# Altium footprint library molex-term-blk.PcbLib: 4 footprints
Each footprint in its own frame and in the unit in brackets; x right, y up, seen from the top. Pads: shape width x height; smd on the part's side, far side on the other; paste and mask are expansions set on the pad; w line width, h text height; cw(c..) or ccw(c..) is an arc to the next point about the centre after c.
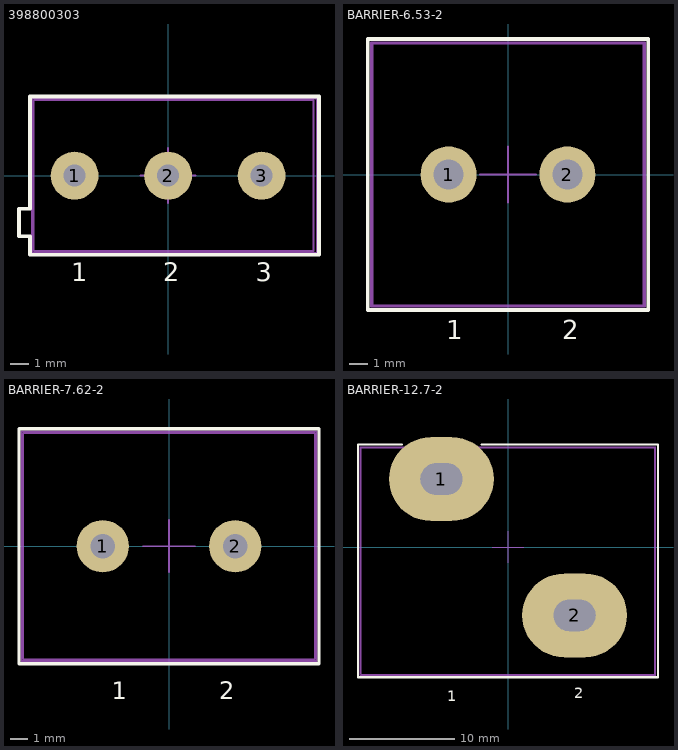
[diagram p0: the footprints below, top view; thin cyan lines are the x and y axes]

## 398800303 [mm] "Terminal Block; 5.08mm Pitch; 3 Positions"
height 10
pads (3):
  round 2.6 hole 1.2: 1(-5.08,0) 2(0,0) 3(5.08,0)
Top Overlay:
  lines w0.2: -8.1,-3.3 -7.5,-3.3 -7.5,-4.3 8.2,-4.3 8.2,4.3 -7.5,4.3 -7.5,-1.8 -8.1,-1.8 -8.1,-3.3
  text "3" at 4.75,-5.75 h1.02
  text "1" at -5.25,-5.75 h1.02
  text "2" at -0.25,-5.75 h1.02
Top Outline:
  lines w0.1: -1.5,0 1.5,0 ; 0,-1.5 0,1.5 ; -7.3,-4.1 -7.3,4.1 7.9,4.1 7.9,-4.1 -7.3,-4.1
Top Assembly:
  lines w0.1: -7.4,-4.2 -7.4,4.2 8.1,4.2 8.1,-4.2 -7.4,-4.2
  text ".Designator" at -3,-2.4 h0.5
3D body "398800303.stp": height 10.1, standoff -3.17, extent -7.85,-4.075 8,4.053

## BARRIER-6.53-2 [mm] "Barrier Terminal Block; 6.35 Pitch; 2 Positions"
height 15
pads (2):
  round 3 hole 1.6: 1(-3.175,0) 2(3.175,0)
Top Overlay:
  lines w0.2: -7.5,-7.25 -7.5,7.25 7.5,7.25 7.5,-7.25 -7.5,-7.25
  text "2" at 2.9,-8.8 h1.02
  text "1" at -3.3,-8.8 h1.02
Top Outline:
  lines w0.1: -1.5,0 1.5,0 ; 0,-1.5 0,1.5 ; -7.25,-7 7.25,-7 7.25,7 -7.25,7 -7.25,-7
Top Assembly:
  lines w0.1: -7.325,-7.075 7.325,-7.075 7.325,7.075 -7.325,7.075 -7.325,-7.075
  text ".Designator" at -2.45,-4.35 h0.5
3D body: height 7.5, standoff 0, extent -5.65,-6 -0.7,6
3D body: height 7.5, standoff 0, extent 0.7,-6 5.65,6.1
3D body: height 15, standoff 0, extent -0.7,-7 0.7,7
3D body: height 15, standoff 0, extent -7.25,-7 -5.65,7
3D body: height 15, standoff 0, extent 5.65,-7 7.25,7
3D body: height 10, standoff 7.5, extent -5.167,-1.996 -1.183,1.996
3D body: height 10, standoff 7.5, extent 1.183,-1.996 5.167,1.996

## BARRIER-7.62-2 [mm] "Barrier Terminal Block; 7.62mm Pitch; 2 Positions"
height 14.5
pads (2):
  round 3 hole 1.4: 1(-3.81,0) 2(3.81,0)
Top Overlay:
  lines w0.2: -8.625,-6.75 -8.625,6.75 8.625,6.75 8.625,-6.75 -8.625,-6.75
  text "2" at 2.9,-8.8 h1.02
  text "1" at -3.3,-8.8 h1.02
Top Outline:
  lines w0.1: -1.5,0 1.5,0 ; 0,-1.5 0,1.5 ; -8.375,-6.5 8.375,-6.5 8.375,6.5 -8.375,6.5 -8.375,-6.5
Top Assembly:
  lines w0.1: -8.475,-6.6 8.475,-6.6 8.475,6.6 -8.475,6.6 -8.475,-6.6
  text ".Designator" at -2.45,-4.35 h0.5
3D body "st-313.stp": height 14.5, standoff -4, extent -8.37,-6.5 8.37,6.5

## BARRIER-12.7-2 [mm] "Barrier Terminal Block; 12.7mm Pitch; 2 Positions"
height 22.6
pads (2):
  oval 10x8 hole 3 slot 4 at 0 deg: 1(-6.35,6.5) 2(6.35,-6.5)
Top Overlay:
  lines w0.2: -10.1,9.8 -14.3,9.8 -14.3,-12.4 14.3,-12.4 14.3,9.8 -2.5,9.8
  text "1" at -5.8,-14.7 h1.02
  text "2" at 6.3,-14.4 h1.02
Top Outline:
  lines w0.1: -1.5,0 1.5,0 ; 0,-1.5 0,1.5 ; -14,-12.1 -14,9.5 14,9.5 14,-12.1 -14,-12.1
Top Assembly:
  lines w0.1: -14.1,-12.2 -14.1,9.6 14.1,9.6 14.1,-12.2 -14.1,-12.2
  text ".Designator" at -2.45,-4.35 h0.5
3D body "389690002.stp": height 22.61, standoff -4.06, extent -13.97,-12.09 13.97,9.5